# EAGLE library part CON_1X14_90_DUBOX_MALE (library ZHAW_BA)
Dubox, 1x14Pin, 2.54 Raster DigiKey: Pt.Nr: 609-1290-ND https://www.digikey.ch/product-detail/de/amphenol-icc-fci/76382-314LF/609-1290-ND/1001604 NOTE: Gegenstück: 65240-014LF
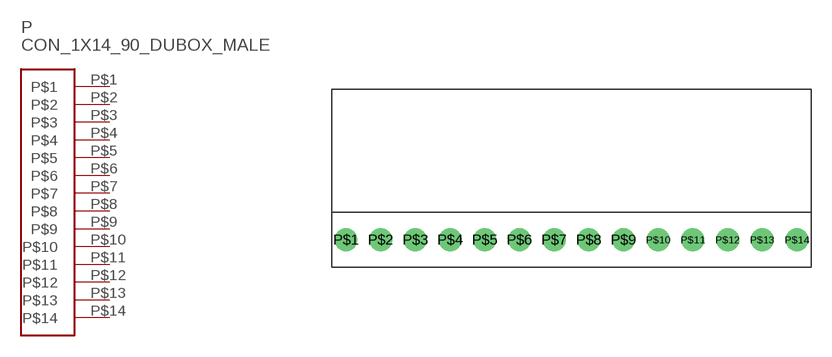
[diagram p16: symbol with the pads of CON_1X14_90_DUBOX_MALE; footprint CON_1X14_90_DUBOX_MALE]

Designator prefix P

## CON_1X14_90_DUBOX_MALE  [CON_1X14_90_DUBOX_MALE]
P$1  P$1
P$2  P$2
P$3  P$3
P$4  P$4
P$5  P$5
P$6  P$6
P$7  P$7
P$8  P$8
P$9  P$9
P$10  P$10
P$11  P$11
P$12  P$12
P$13  P$13
P$14  P$14

## Footprint CON_1X14_90_DUBOX_MALE (pad centres in mm)
drill 1 pad 1.676: P$1 -16.51,0; P$2 -13.97,0; P$3 -11.43,0; P$4 -8.89,0; P$5 -6.35,0; P$6 -3.81,0; P$7 -1.27,0; P$8 1.27,0; P$9 3.81,0; P$10 6.35,0; P$11 8.89,0; P$12 11.43,0; P$13 13.97,0; P$14 16.51,0